# Altium schematic symbol library block_sheme_lib.SchLib: 7 symbols
Pins are listed as number, name and electrical type; pins without a type are passive.

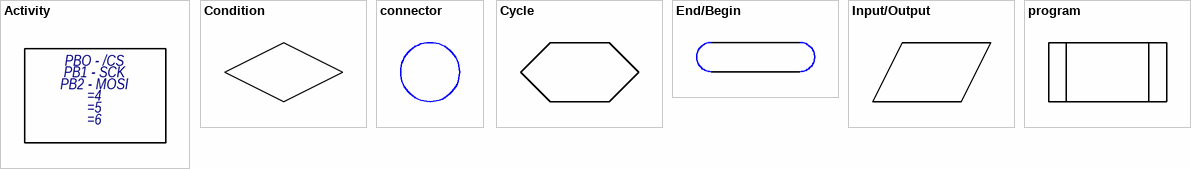
[diagram p0: symbols Activity to program]

## Activity
designator A?  (value not drawn)
1: PBO - /CS; 2: PB1 - SCK; 3: PB2 - MOSI

## Condition
designator CON?  (value not drawn)
Parameter 1: *

## connector
designator CO?  (value not drawn)

## Cycle
designator CY?  (value not drawn)

## End/Begin
designator E?  (value not drawn)
Parameter 1: *

## Input/Output
designator I?  (value not drawn)
Parameter 1: *

## program
designator P?  (value not drawn)
Parameter 1: *